# Altium footprint library MiscComponents.PcbLib: 19 footprints (part 1 of 2)
Each footprint in its own frame and in the unit in brackets; x right, y up, seen from the top. Pads: shape width x height; smd on the part's side, far side on the other; paste and mask are expansions set on the pad; w line width, h text height; cw(c..) or ccw(c..) is an arc to the next point about the centre after c.
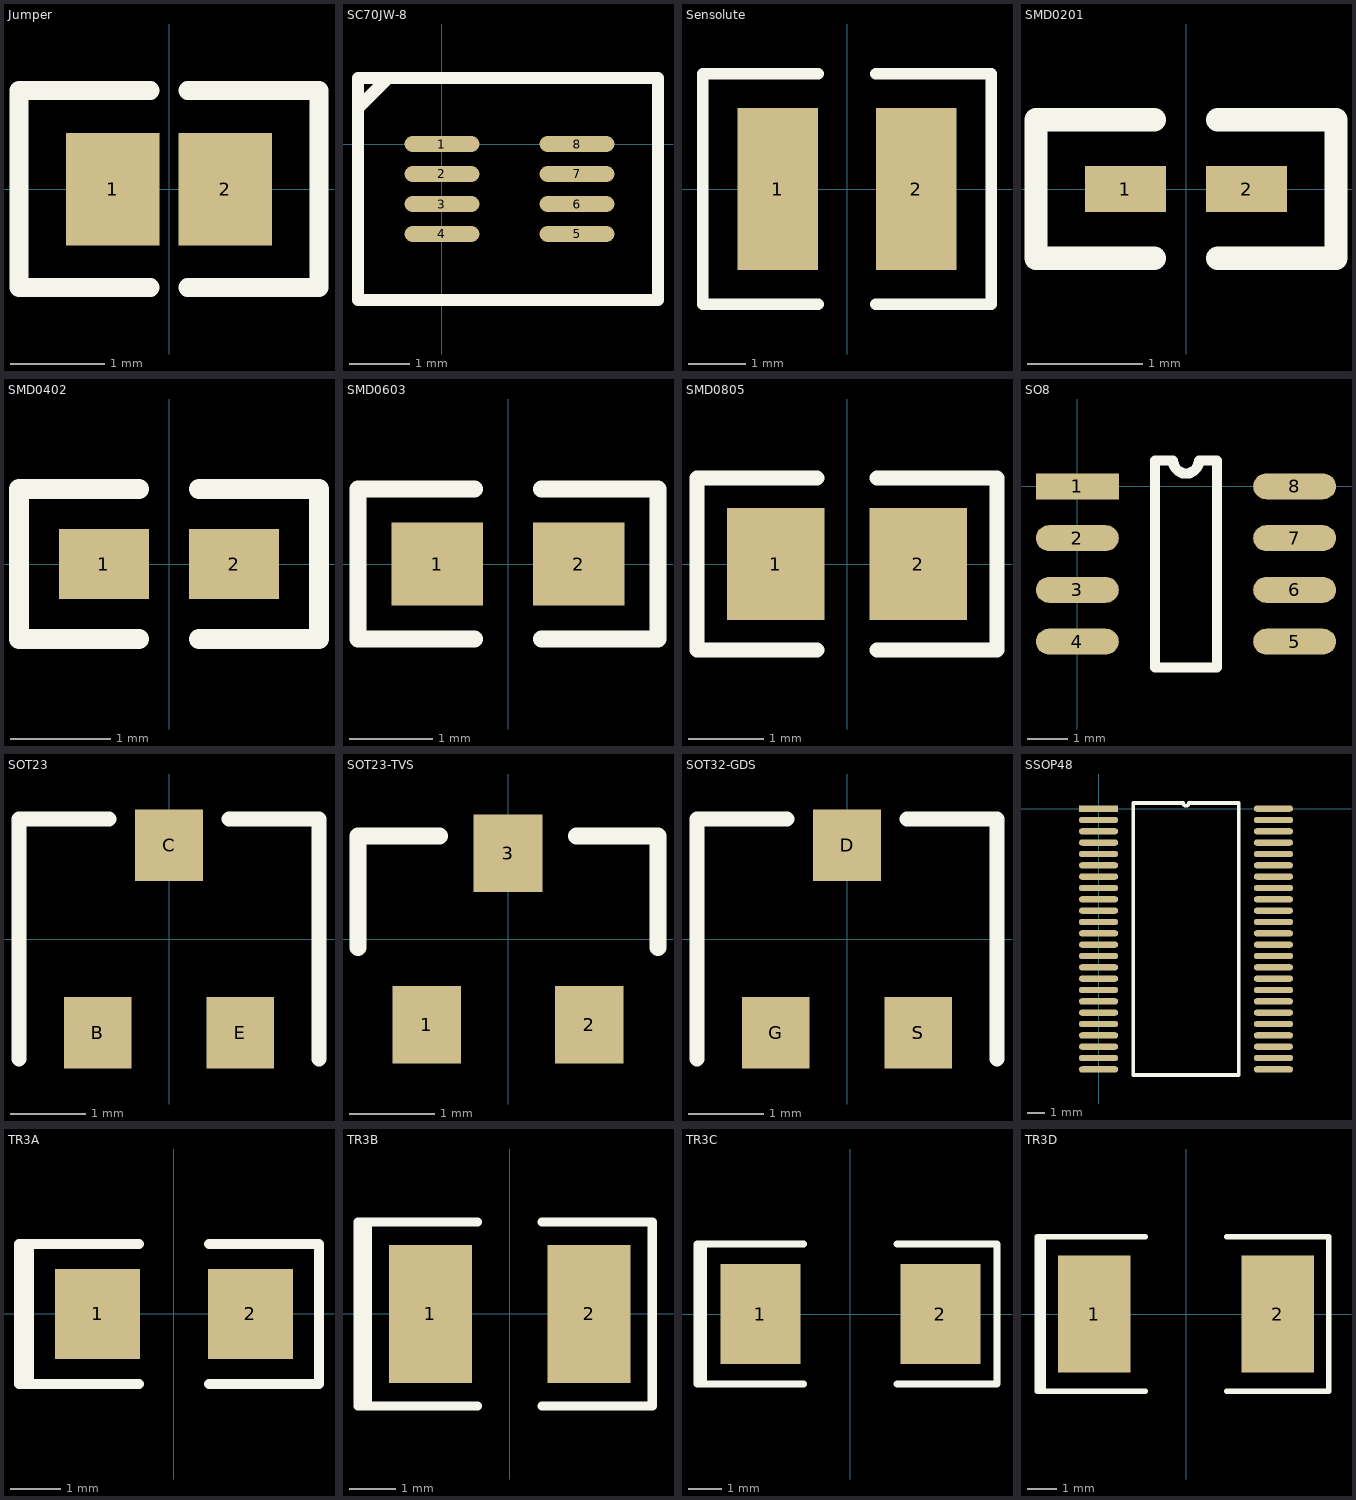
[diagram p0: the footprints below, top view; thin cyan lines are the x and y axes]

## Jumper [mm] "Solder Jumper"
pads (2):
  rect 1x1.2 smd: 1(-0.6,0) 2(0.6,0)
Top Overlay:
  lines w0.2: -0.2,-1.05 -1.6,-1.05 -1.6,1.05 -0.2,1.05 ; 0.2,-1.05 1.6,-1.05 1.6,1.05 0.2,1.05

## SC70JW-8 [mm]
pads (8):
  oval 1.25x0.265 smd: 1(0,0) 2(0,-0.5) 3(0,-1) 4(0,-1.5) 5(2.25,-1.5) 6(2.25,-1) 7(2.25,-0.5) 8(2.25,0)
Top Overlay:
  lines w0.2: -1.4,0.6 -0.9,1.1 ; -1.4,-2.6 -1.4,1.1 3.6,1.1 3.6,-2.6 -1.4,-2.6

## Sensolute [mm] "Motion Sensor"
height 1.7
pads (2):
  rect 1.4x2.8 smd: 1(-1.2,0) 2(1.2,0)
Top Overlay:
  lines w0.2: -0.5,-2 -2.5,-2 -2.5,2 -0.5,2 ; 0.5,-2 2.5,-2 2.5,2 0.5,2

## SMD0201 [mm]
height 0.305
pads (2):
  rect 0.7x0.4 smd: 1(-0.525,0) 2(0.525,0)
Top Overlay:
  lines w0.2: -0.275,-0.6 -1.3,-0.6 -1.3,0.6 -0.275,0.6 ; 0.275,-0.6 1.3,-0.6 1.3,0.6 0.275,0.6

## SMD0402 [mm]
height 0.406
pads (2):
  rect 0.9x0.7 smd: 1(-0.65,0) 2(0.65,0)
Top Overlay:
  lines w0.2: -0.3,-0.75 -1.5,-0.75 -1.5,0.75 -0.3,0.75 ; 0.3,-0.75 1.5,-0.75 1.5,0.75 0.3,0.75

## SMD0603 [mm]
height 0.508
pads (2):
  rect 1.1x1 smd: 1(-0.85,0) 2(0.85,0)
Top Overlay:
  lines w0.2: -0.4,-0.9 -1.8,-0.9 -1.8,0.9 -0.4,0.9 ; 0.4,-0.9 1.8,-0.9 1.8,0.9 0.4,0.9

## SMD0805 [mm]
height 0.61
pads (2):
  rect 1.3x1.5 smd: 1(-0.95,0) 2(0.95,0)
Top Overlay:
  lines w0.2: -0.4,-1.15 -2,-1.15 -2,1.15 -0.4,1.15 ; 0.4,-1.15 2,-1.15 2,1.15 0.4,1.15

## SO8 [mil]
pads (8):
  rect 80x25 smd: 1(0,0)
  oval 80x25 smd: 2(0,-50) 3(0,-100) 4(0,-150) 5(210,-150) 6(210,-100) 7(210,-50) 8(210,0)
Top Overlay:
  lines w10: 75,-175 135,-175 135,25 117.5,25 cw(c105,25) 92.5,25 75,25 75,-175

## SOT23 [mm]
height 1.1
pads (3):
  rect 0.9x0.95 smd: B(-0.95,-1.25) C(0,1.25) E(0.95,-1.25)
Top Overlay:
  lines w0.2: -2,-1.6 -2,1.6 -0.8,1.6 ; 0.8,1.6 2,1.6 2,-1.6

## SOT23-TVS [mm]
height 1
pads (3):
  rect 0.8x0.9 smd: 1(-0.95,-1) 2(0.95,-1) 3(0,1)
Top Overlay:
  lines w0.2: -1.75,-0.1 -1.75,1.2 -0.8,1.2 ; 0.8,1.2 1.75,1.2 1.75,-0.1

## SOT32-GDS [mm] "Mosfet-N"
height 1
pads (3):
  rect 0.9x0.95 smd: D(0,1.25) G(-0.95,-1.25) S(0.95,-1.25)
Top Overlay:
  lines w0.2: -2,-1.6 -2,1.6 -0.8,1.6 ; 0.8,1.6 2,1.6 2,-1.6

## SSOP48 [mm]
pads (48):
  rect 2.2x0.35 smd: 1(0,0)
  oval 2.2x0.35 smd: 2(0,-0.635) 3(0,-1.27) 4(0,-1.905) 5(0,-2.54) 6(0,-3.175) 7(0,-3.81) 8(0,-4.445) 9(0,-5.08) 10(0,-5.715) 11(0,-6.35) 12(0,-6.985) 13(0,-7.62) 14(0,-8.255) 15(0,-8.89) 16(0,-9.525) 17(0,-10.16) 18(0,-10.795) 19(0,-11.43) 20(0,-12.065) 21(0,-12.7) 22(0,-13.335) 23(0,-13.97) 24(0,-14.605) 25(9.8,-14.605) 26(9.8,-13.97) 27(9.8,-13.335) 28(9.8,-12.7) 29(9.8,-12.065) 30(9.8,-11.43) 31(9.8,-10.795) 32(9.8,-10.16) 33(9.8,-9.525) 34(9.8,-8.89) 35(9.8,-8.255) 36(9.8,-7.62) 37(9.8,-6.985) 38(9.8,-6.35) 39(9.8,-5.715) 40(9.8,-5.08) 41(9.8,-4.445) 42(9.8,-3.81) 43(9.8,-3.175) 44(9.8,-2.54) 45(9.8,-1.905) 46(9.8,-1.27) 47(9.8,-0.635) 48(9.8,0)
Top Overlay:
  lines w0.2: 1.935,-14.922 7.865,-14.922 7.865,0.318 5.059,0.318 cw(c4.9,0.318) 4.741,0.318 1.935,0.318 1.935,-14.922

## TR3A [mm]
height 1.6
pads (2):
  rect 1.7x1.8 smd: 1(-1.525,0) 2(1.525,0)
Top Overlay:
  lines w0.2: -2.9,-1.4 -2.9,1.4 ; -0.7,-1.4 -3.1,-1.4 -3.1,1.4 -0.7,1.4 ; 0.7,-1.4 2.9,-1.4 2.9,1.4 0.7,1.4

## TR3B [mm]
height 1.9
pads (2):
  rect 1.8x3 smd: 1(-1.725,0) 2(1.725,0)
Top Overlay:
  lines w0.2: -3.1,-2 -3.1,2 ; -0.7,-2 -3.3,-2 -3.3,2 -0.7,2 ; 0.7,-2 3.1,-2 3.1,2 0.7,2

## TR3C [mm]
height 2.5
pads (2):
  rect 2.4x3 smd: 1(-2.7,0) 2(2.7,0)
Top Overlay:
  lines w0.2: -1.4,-2.1 -4.6,-2.1 -4.6,2.1 -1.4,2.1 ; 1.4,-2.1 4.4,-2.1 4.4,2.1 1.4,2.1
  lines w0.21: -4.4,-2.1 -4.4,2.1

## TR3D [mm]
height 2.8
pads (2):
  rect 2.5x4 smd: 1(-3.15,0) 2(3.15,0)
Top Overlay:
  lines w0.2: -4.9,-2.65 -4.9,2.65 ; -1.4,-2.65 -5.1,-2.65 -5.1,2.65 -1.4,2.65 ; 1.4,-2.65 4.9,-2.65 4.9,2.65 1.4,2.65